# EAGLE library part STM32F10XRXT6 (library mylib)
STM32F101/103 64pin LQFP
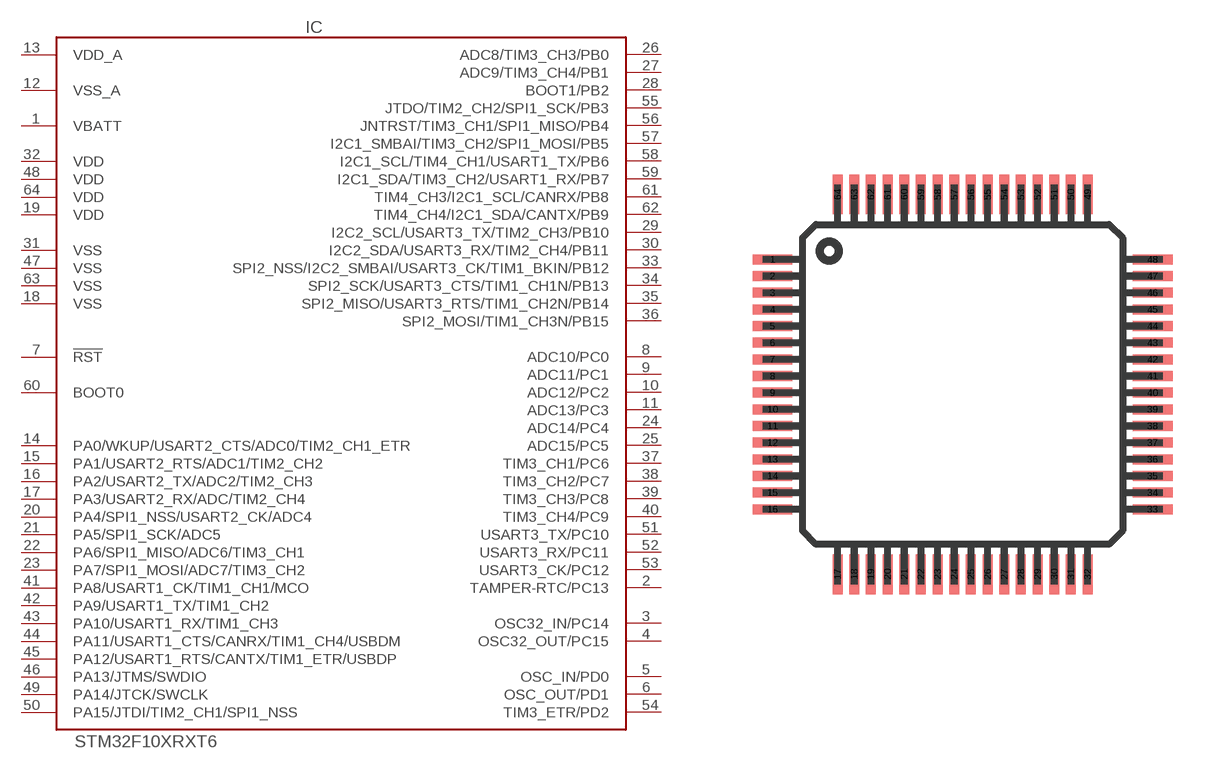
[diagram p0: symbol with the pads of TQFP64; footprint TQFP64]

Designator prefix IC

## STM32F10XRXT6  [TQFP64]
1  VBATT  pwr
2  TAMPER-RTC/PC13
3  OSC32_IN/PC14
4  OSC32_OUT/PC15
5  OSC_IN/PD0
6  OSC_OUT/PD1
7  !RST  in
8  ADC10/PC0
9  ADC11/PC1
10  ADC12/PC2
11  ADC13/PC3
12  VSS_A  pwr
13  VDD_A  pwr
14  PA0/WKUP/USART2_CTS/ADC0/TIM2_CH1_ETR
15  PA1/USART2_RTS/ADC1/TIM2_CH2
16  PA2/USART2_TX/ADC2/TIM2_CH3
17  PA3/USART2_RX/ADC/TIM2_CH4
18  VSS  pwr
19  VDD
20  PA4/SPI1_NSS/USART2_CK/ADC4
21  PA5/SPI1_SCK/ADC5
22  PA6/SPI1_MISO/ADC6/TIM3_CH1
23  PA7/SPI1_MOSI/ADC7/TIM3_CH2
24  ADC14/PC4
25  ADC15/PC5
26  ADC8/TIM3_CH3/PB0
27  ADC9/TIM3_CH4/PB1
28  BOOT1/PB2
29  I2C2_SCL/USART3_TX/TIM2_CH3/PB10
30  I2C2_SDA/USART3_RX/TIM2_CH4/PB11
31  VSS  pwr
32  VDD
33  SPI2_NSS/I2C2_SMBAI/USART3_CK/TIM1_BKIN/PB12
34  SPI2_SCK/USART3_CTS/TIM1_CH1N/PB13
35  SPI2_MISO/USART3_RTS/TIM1_CH2N/PB14
36  SPI2_MOSI/TIM1_CH3N/PB15
37  TIM3_CH1/PC6
38  TIM3_CH2/PC7
39  TIM3_CH3/PC8
40  TIM3_CH4/PC9
41  PA8/USART1_CK/TIM1_CH1/MCO
42  PA9/USART1_TX/TIM1_CH2
43  PA10/USART1_RX/TIM1_CH3
44  PA11/USART1_CTS/CANRX/TIM1_CH4/USBDM
45  PA12/USART1_RTS/CANTX/TIM1_ETR/USBDP
46  PA13/JTMS/SWDIO
47  VSS  pwr
48  VDD
49  PA14/JTCK/SWCLK
50  PA15/JTDI/TIM2_CH1/SPI1_NSS
51  USART3_TX/PC10
52  USART3_RX/PC11
53  USART3_CK/PC12
54  TIM3_ETR/PD2
55  JTDO/TIM2_CH2/SPI1_SCK/PB3
56  JNTRST/TIM3_CH1/SPI1_MISO/PB4
57  I2C1_SMBAI/TIM3_CH2/SPI1_MOSI/PB5
58  I2C1_SCL/TIM4_CH1/USART1_TX/PB6
59  I2C1_SDA/TIM3_CH2/USART1_RX/PB7
60  BOOT0  in
61  TIM4_CH3/I2C1_SCL/CANRX/PB8
62  TIM4_CH4/I2C1_SDA/CANTX/PB9
63  VSS  pwr
64  VDD

## Footprint TQFP64 (pad centres in mm)
smd 1.2 x 0.3: 1 -5.7,3.75; 2 -5.7,3.25; 3 -5.7,2.75; 4 -5.7,2.25; 5 -5.7,1.75; 6 -5.7,1.25; 7 -5.7,0.75; 8 -5.7,0.25; 9 -5.7,-0.25; 10 -5.7,-0.75; 11 -5.7,-1.25; 12 -5.7,-1.75; 13 -5.7,-2.25; 14 -5.7,-2.75; 15 -5.7,-3.25; 16 -5.7,-3.75; 33 5.7,-3.75; 34 5.7,-3.25; 35 5.7,-2.75; 36 5.7,-2.25; 37 5.7,-1.75; 38 5.7,-1.25; 39 5.7,-0.75; 40 5.7,-0.25; 41 5.7,0.25; 42 5.7,0.75; 43 5.7,1.25; 44 5.7,1.75; 45 5.7,2.25; 46 5.7,2.75; 47 5.7,3.25; 48 5.7,3.75
smd 0.3 x 1.2: 17 -3.75,-5.7; 18 -3.25,-5.7; 19 -2.75,-5.7; 20 -2.25,-5.7; 21 -1.75,-5.7; 22 -1.25,-5.7; 23 -0.75,-5.7; 24 -0.25,-5.7; 25 0.25,-5.7; 26 0.75,-5.7; 27 1.25,-5.7; 28 1.75,-5.7; 29 2.25,-5.7; 30 2.75,-5.7; 31 3.25,-5.7; 32 3.75,-5.7; 49 3.75,5.7; 50 3.25,5.7; 51 2.75,5.7; 52 2.25,5.7; 53 1.75,5.7; 54 1.25,5.7; 55 0.75,5.7; 56 0.25,5.7; 57 -0.25,5.7; 58 -0.75,5.7; 59 -1.25,5.7; 60 -1.75,5.7; 61 -2.25,5.7; 62 -2.75,5.7; 63 -3.25,5.7; 64 -3.75,5.7